# Altium schematic symbol library UCC37322.SchLib: 1 symbol
Pins are listed as number, name and electrical type; pins without a type are passive.

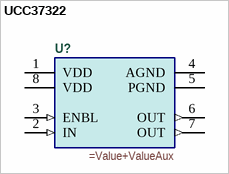
[diagram p0: symbol UCC37322]

## UCC37322
designator U?
=Description
pins: 1 VDD (power), 2 IN (in), 3 ENBL (in), 4 AGND (power), 5 PGND (power), 6 OUT (out), 7 OUT (out), 8 VDD (power)